# Altium footprint library GRM32ER61C476KE15L.PcbLib: 3 footprints
Each footprint in its own frame and in the unit in brackets; x right, y up, seen from the top. Pads: shape width x height; smd on the part's side, far side on the other; paste and mask are expansions set on the pad; w line width, h text height; cw(c..) or ccw(c..) is an arc to the next point about the centre after c.
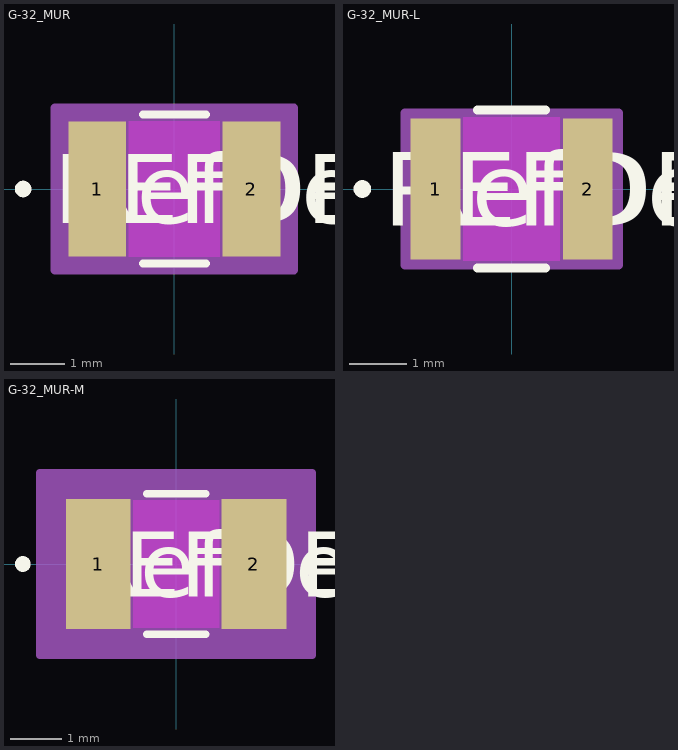
[diagram p0: the footprints below, top view; thin cyan lines are the x and y axes]

## G-32_MUR [mil]
pads (2):
  rect 41.78x98 smd paste+0 mask+0: 1(-55.89,0) 2(55.89,0)
Top Layer keep-out:
  region: -33,-47 -33,47 33,47 33,-47
Top Overlay:
  circle w6: c-109.78,0 r3
  lines w6: -22.89,-54 22.89,-54 ; -22.89,54 22.89,54
  text "RefDes" at -75,-25 h50
  text "REFDES" at -87.5,-25 h50
Keep-Out Layer:
  region: -33,-49 -33,49 33,49 33,-49
Mechanical 13:
  circle w0: c-50.89,0 r3
  lines w1: -63,-49 -63,49 ; -63,-49 -35,-49 -35,49 -63,49 ; -63,-49 63,-49 ; -63,-49 -63,49 ; -63,49 63,49 ; 63,-49 35,-49 35,49 63,49 ; 63,-49 63,49 ; 63,-49 63,49
  text "RefDes2" at -87.5,-25 h50
Mechanical 15:
  region: 86.78,-59 -86.78,-59 -86.78,59 86.78,59
  lines w6: -86.78,-59 -86.78,59 86.78,59 86.78,-59 -86.78,-59
3D body "G-32_MUR.step": height 110, standoff 0, extent -62.99,-49.02 62.99,49.02

## G-32_MUR-L [mil]
pads (2):
  rect 33.91x96.03 smd paste+0 mask+0: 1(-51.95,0) 2(51.95,0)
Top Layer keep-out:
  region: -33,-47 -33,47 33,47 33,-47
Top Overlay:
  circle w6: c-101.91,0 r3
  lines w6: -23.35,-54 23.35,-54 ; -23.35,54 23.35,54
  text "RefDes" at -75,-25 h50
  text "REFDES" at -87.5,-25 h50
Keep-Out Layer:
  region: -33,-49 -33,49 33,49 33,-49
Mechanical 13:
  circle w0: c-46.95,0 r3
  lines w1: -63,-49 -63,49 ; -63,-49 -35,-49 -35,49 -63,49 ; -63,-49 63,-49 ; -63,-49 -63,49 ; -63,49 63,49 ; 63,-49 35,-49 35,49 63,49 ; 63,-49 63,49 ; 63,-49 63,49
  text "RefDes2" at -87.5,-25 h50
Mechanical 15:
  region: 72.91,-52.02 -72.91,-52.02 -72.91,52.02 72.91,52.02
  lines w6: -72.91,-52.02 -72.91,52.02 72.91,52.02 72.91,-52.02 -72.91,-52.02
3D body "G-32_MUR.step": height 110, standoff 0, extent -62.99,-49.02 62.99,49.02

## G-32_MUR-M [mil]
pads (2):
  rect 49.65x99.97 smd paste+0 mask+0: 1(-59.83,0) 2(59.83,0)
Top Layer keep-out:
  region: -33,-47 -33,47 33,47 33,-47
Top Overlay:
  circle w6: c-117.65,0 r3
  lines w6: -22.53,-54 22.53,-54 ; -22.53,54 22.53,54
  text "RefDes" at -75,-25 h50
  text "REFDES" at -87.5,-25 h50
Keep-Out Layer:
  region: -33,-49 -33,49 33,49 33,-49
Mechanical 13:
  circle w0: c-54.83,0 r3
  lines w1: -63,-49 -63,49 ; -63,-49 -35,-49 -35,49 -63,49 ; -63,-49 63,-49 ; -63,-49 -63,49 ; -63,49 63,49 ; 63,-49 35,-49 35,49 63,49 ; 63,-49 63,49 ; 63,-49 63,49
  text "RefDes2" at -87.5,-25 h50
Mechanical 15:
  region: 104.65,-69.98 -104.65,-69.98 -104.65,69.98 104.65,69.98
  lines w6: -104.65,-69.98 -104.65,69.98 104.65,69.98 104.65,-69.98 -104.65,-69.98
3D body "G-32_MUR.step": height 110, standoff 0, extent -62.99,-49.02 62.99,49.02